# EAGLE library part SWITCH_6PIN (library CRD)
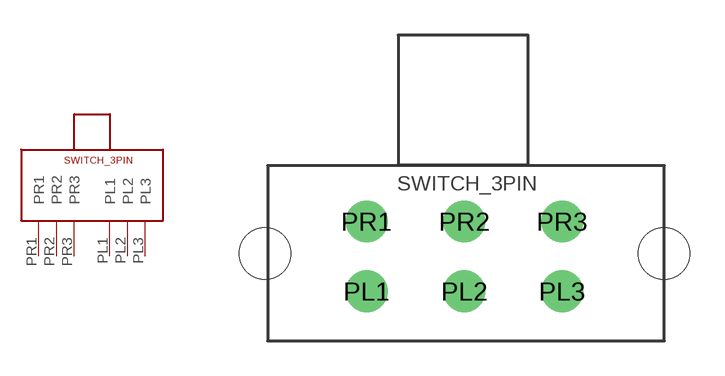
[diagram p7: symbol with the pads of SWITCH_6PIN_FOOTPRINT; footprint SWITCH_6PIN_FOOTPRINT]

Designator prefix -

## SWITCH_6PIN  [SWITCH_6PIN_FOOTPRINT]
PL1  PL1
PL2  PL2
PL3  PL3
PR1  PR1
PR2  PR2
PR3  PR3

## Footprint SWITCH_6PIN_FOOTPRINT (pad centres in mm)
drill 1.2: PL1 -4.27,-1.621; PL2 -0.07,-1.621; PL3 4.13,-1.621; PR1 -4.27,1.379; PR2 -0.07,1.379; PR3 4.13,1.379
hole 2.2 at -8.636,0
hole 2.2 at 8.509,0